# EAGLE library part TUSB321 (library m_ic-comm)
TUSB321 USB Type-C Configuration Channel Logic and Port Control with VCONN Description The TUSB321 device enables USB Type-C ports with the configuration channel (CC) logic needed for Type- C ecosystems. The TUSB321 device uses the CC pins to determine port attach and detach, cable orientation, role detection, and port control for Type-C current mode. The TUSB321 device can be configured as a downstream facing port (DFP), upstream facing port (UFP) or a dual role port (DRP) making it ideal for any application. The TUSB321 device when configured as a DRP alternates configuration as a DFP or UFP according to the Type-C Specifications. The CC logic block monitors the CC1 and CC2 pins for pullup or pulldown resistances to determine when a USB port has been attached, the orientation of the cable, and the role detected. The CC logic detects the Type-C current mode as default, medium, or high depending on the role detected. VBUS detection is implemented to determine a successful attach in UFP and DRP modes. The device operates over a wide supply range and has low-power consumption. The TUSB321 device is available in industrial and commercial temperature ranges. Features USB Type-CTM Specification 1.1 Backward Compatible with USB Type-C Specification 1.0 Supports Up to 3 A of Current Advertisement through dedicated Current Mode pin Mode Configuration Host Only – DFP (Source) Device Only – UFP (Sink) Dual Role Port – DRP Channel Configuration (CC) Attach of USB Port Detection Cable Orientation Detection Role Detection Type-C Current Mode advertisement and detection (Default, Medium, High) VBUS Detection VCONN Support for Active Cables Cable Detection and Direction Control for External Switches Supply Voltage: 4.5 V to 5.5 V Low Current Consumption Industrial Temperature Range of –40 to 85°C Device Information PART NUMBER PACKAGE BODY SIZE (NOM) TUSB321 X2QFN (12) 1.60 mm × 1.60 mm × 0.4mm Octopart Search <https://octopart.com/search?q=TUSB321RWBR> Added 2017-03-23
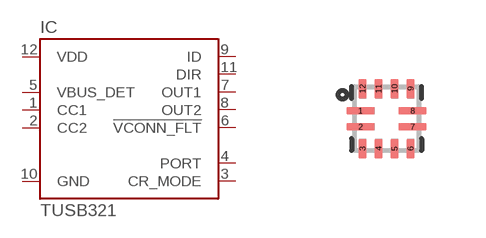
[diagram p8: symbol with the pads of X2QFN; footprint X2QFN]

Designator prefix IC

## TUSB321 (MANUF: TI; PARTNUM: TUSB321RWBR)  [X2QFN]
1  CC1  pas
2  CC2  pas
3  CR_MODE  pas
4  PORT  pas
5  VBUS_DET  pas
6  !VCONN_FLT  pas
7  OUT1  pas
8  OUT2  pas
9  ID  pas
10  GND  pas
11  DIR  pas
12  VDD  pas

## Footprint X2QFN (pad centres in mm)
TI X2QFN (RWB0012A) TI Drawing 4221631/A 12/2014 Added 2017-03-23
smd 0.7 x 0.2: 1 -0.65,0.2; 2 -0.65,-0.2; 7 0.65,-0.2; 8 0.65,0.2
smd 0.2 x 0.5: 3 -0.6,-0.75; 4 -0.2,-0.75; 5 0.2,-0.75; 6 0.6,-0.75; 9 0.6,0.75; 10 0.2,0.75; 11 -0.2,0.75; 12 -0.6,0.75